# Altium footprint library WPME-VDMM.PcbLib: 5 footprints
Each footprint in its own frame and in the unit in brackets; x right, y up, seen from the top. Pads: shape width x height; smd on the part's side, far side on the other; paste and mask are expansions set on the pad; w line width, h text height; cw(c..) or ccw(c..) is an arc to the next point about the centre after c.
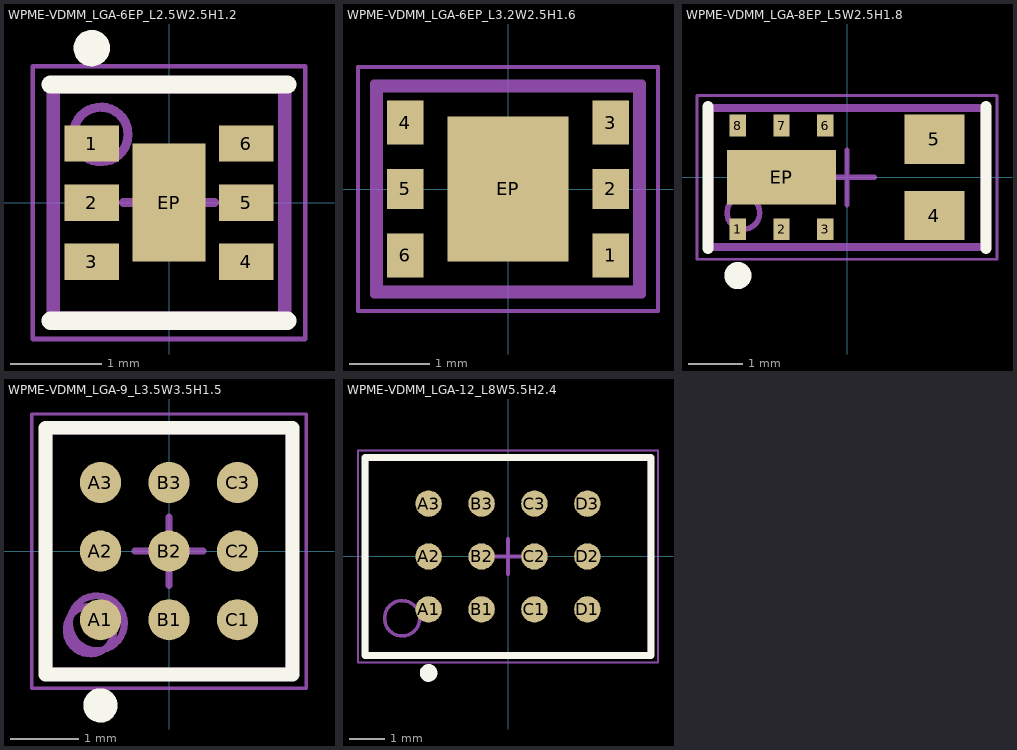
[diagram p0: the footprints below, top view; thin cyan lines are the x and y axes]

## WPME-VDMM_LGA-6EP_L2.5W2.5H1.2 [mm] "Variable Step Down MicroModule, LGA-6EP, body 2.50x2.50mm"
height 1.21
pads (7):
  rect 0.6x0.4 smd: 1(-0.85,0.65) 2(-0.85,0) 3(-0.85,-0.65) 4(0.85,-0.65) 5(0.85,0) 6(0.85,0.65)
  rect 0.8x1.3 smd: EP(0,0)
Top Overlay:
  circle w0.2: c-0.85,1.7 r0.1
  lines w0.2: -1.3,-1.3 1.3,-1.3 ; -1.3,1.3 1.3,1.3
Top Assembly:
  circle w0.1: c-0.75,0.75 r0.3
  lines w0.1: -1.3,-1.3 1.3,-1.3 1.3,1.3 -1.3,1.3 -1.3,-1.3
Top Designator:
  text ".Designator" at -3.647,-0.357 h1
Top 3D Body:
  circle w0.1: c-0.75,0.75 r0.3
  lines w0.1: -1.25,1.25 -1.25,-1.25 1.25,-1.25 ; -1.25,1.25 1.25,1.25 1.25,-1.25 ; -1.25,1.25 -1.25,1.25 ; -1.25,1.25 -1.25,1.25 ; 1.25,-1.25 1.25,-1.25
Top Courtyard:
  lines w0.05: -1.5,-1.5 1.5,-1.5 1.5,1.5 -1.5,1.5 -1.5,-1.5
Top Component Center:
  lines w0.1: -0.5,0 0.5,0 ; 0,-0.5 0,0.5
3D body "171010550 (rev1).stp": height 1.23, standoff 0.02, extent -1.25,-1.25 1.25,1.25

## WPME-VDMM_LGA-6EP_L3.2W2.5H1.6 [mm] "Variable Step Down MicroModule, LGA-6EP, body 3.20x2.50mm"
height 1.6
pads (7):
  rect 0.45x0.55 smd: 1(1.275,-0.825) 3(1.275,0.825) 4(-1.275,0.825) 6(-1.275,-0.825)
  rect 0.45x0.5 smd: 2(1.275,0) 5(-1.275,0)
  rect 1.5x1.8 smd: EP(0,0)
Top Assembly:
  lines w0.1: -1.663,-1.312 -1.663,1.312 1.663,1.312 1.663,-1.312 -1.663,-1.312
Top Designator:
  text ".Designator" at -3.647,-0.357 h1
Top 3D Body:
  lines w0.1: -1.6,-1.25 1.6,-1.25 ; -1.6,-1.25 -1.6,-1.25 ; -1.6,-1.25 -1.6,1.25 ; -1.6,1.25 -1.6,1.25 ; -1.6,1.25 1.6,1.25 1.6,-1.25 ; 1.6,-1.25 1.6,-1.25
Top Courtyard:
  lines w0.05: -1.863,-1.512 -1.863,1.512 1.863,1.512 1.863,-1.512 -1.863,-1.512
Top Component Center:
  lines w0.1: -0.5,0 0.5,0 ; 0,-0.5 0,0.5
3D body "171010501.stp": height 1.55, standoff 0, extent -1.6,-1.25 1.6,1.25

## WPME-VDMM_LGA-8EP_L5W2.5H1.8 [mm] "Variable Step Down MicroModule, LGA-8EP, body 5.00x2.50mm"
height 1.8
pads (9):
  rect 0.3x0.4 smd: 1(-2,-0.95) 2(-1.2,-0.95) 3(-0.4,-0.95) 6(-0.4,0.95) 7(-1.2,0.95) 8(-2,0.95)
  rect 1.1x0.9 smd: 4(1.6,-0.7) 5(1.6,0.7)
  rect 2x1 smd: EP(-1.2,0)
Top Overlay:
  circle w0.25: c-2,-1.8 r0.125
  lines w0.2: -2.55,-1.3 -2.55,1.3 ; 2.55,-1.3 2.55,1.3
Top Assembly:
  circle w0.1: c-1.9,-0.65 r0.3
  lines w0.1: -2.55,-1.3 2.55,-1.3 2.55,1.3 -2.55,1.3 -2.55,-1.3
Top Designator:
  text ".Designator" at -3.647,-0.357 h1
Top 3D Body:
  circle w0.1: c-1.9,-0.65 r0.3
  lines w0.1: -2.5,-1.25 2.5,-1.25 2.5,1.25 -2.5,1.25 -2.5,-1.25
Top Courtyard:
  lines w0.05: -2.75,-1.5 -2.75,1.5 2.75,1.5 2.75,-1.5 -2.75,-1.5
Top Component Center:
  lines w0.1: -0.5,0 0.5,0 ; 0,-0.5 0,0.5
3D body "171930601.stp": height 1.73, standoff 0.02, extent -2.5,-1.25 2.5,1.25

## WPME-VDMM_LGA-9_L3.5W3.5H1.5 [mm] "Variable Step Down MicroModule, LGA-9, body 3.50x3.50mm"
height 1.5
pads (9):
  round 0.6 smd: A1(-1,-1) A2(-1,0) A3(-1,1) B1(0,-1) B2(0,0) B3(0,1) C1(1,-1) C2(1,0) C3(1,1)
Top Overlay:
  circle w0.25: c-1,-2.25 r0.125
  lines w0.2: -1.8,-1.8 -1.8,1.8 1.8,1.8 1.8,-1.8 -1.8,-1.8
Top Assembly:
  circle w0.1: c-1.05,-1.05 r0.4
  lines w0.1: -1.8,-1.8 1.8,-1.8 1.8,1.8 -1.8,1.8 -1.8,-1.8
Top Designator:
  text ".Designator" at -3.647,-0.357 h1
Top 3D Body:
  circle w0.1: c-1.15,-1.15 r0.35
  lines w0.1: -1.75,-1.75 -1.75,1.75 1.75,1.75 1.75,-1.75 -1.75,-1.75
Top Courtyard:
  lines w0.05: -2,-2 -2,2 2,2 2,-2 -2,-2
Top Component Center:
  lines w0.1: -0.5,0 0.5,0 ; 0,-0.5 0,0.5
3D body "1710X0560.stp": height 1.52, standoff 0.02, extent -1.75,-1.75 1.75,1.75

## WPME-VDMM_LGA-12_L8W5.5H2.4 [mm] "Variable Step Down MicroModule, LGA-12"
height 2.4
pads (12):
  round 0.75 smd: A1(-2.25,-1.5) A2(-2.25,0) A3(-2.25,1.5) B1(-0.75,-1.5) B2(-0.75,0) B3(-0.75,1.5) C1(0.75,-1.5) C2(0.75,0) C3(0.75,1.5) D1(2.25,-1.5) D2(2.25,0) D3(2.25,1.5)
Top Overlay:
  circle w0.25: c-2.25,-3.3 r0.125
  lines w0.2: -4.05,-2.8 -4.05,2.8 4.05,2.8 4.05,-2.8 -4.05,-2.8
Top Assembly:
  circle w0.1: c-3,-1.75 r0.5
  lines w0.1: -4.05,-2.8 -4.05,2.8 4.05,2.8 4.05,-2.8 -4.05,-2.8
Top Designator:
  text ".Designator" at -3.647,-0.357 h1
Top 3D Body:
  circle w0.1: c-3,-1.75 r0.5
  lines w0.1: -4,-2.75 -4,2.75 4,2.75 4,-2.75 -4,-2.75
Top Courtyard:
  lines w0.05: -4.25,-3 -4.25,3 4.25,3 4.25,-3 -4.25,-3
Top Component Center:
  lines w0.1: -0.5,0 0.5,0 ; 0,-0.5 0,0.5
3D body "171936001.stp": height 2.37, standoff 0.05, extent -4,-2.75 4,2.75